# Altium footprint library CAN_optical_PcbLib.PcbLib: 20 footprints (part 2 of 2)
Each footprint in its own frame and in the unit in brackets; x right, y up, seen from the top. Pads: shape width x height; smd on the part's side, far side on the other; paste and mask are expansions set on the pad; w line width, h text height; cw(c..) or ccw(c..) is an arc to the next point about the centre after c.
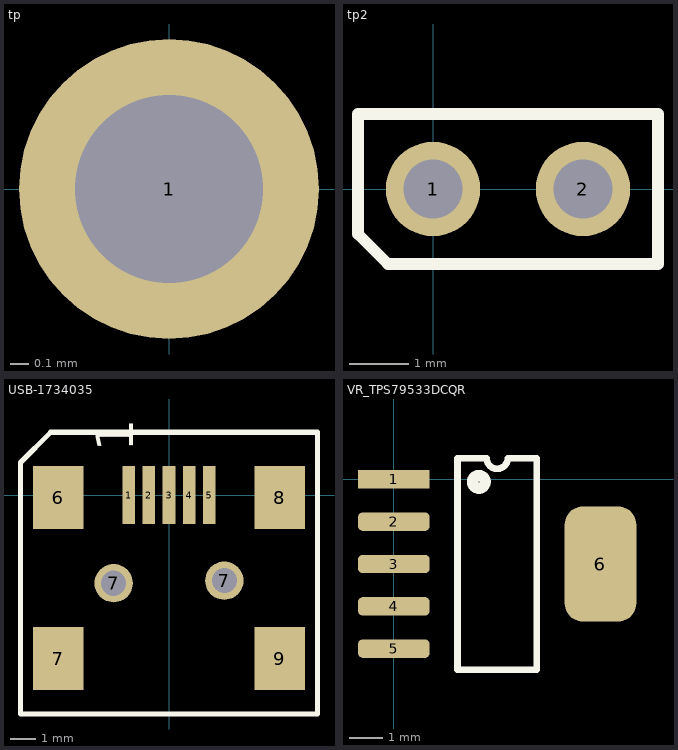
[diagram p1: the footprints below, top view; thin cyan lines are the x and y axes]

## tp [mm]
pads (1):
  round 1.6 hole 1: 1(0,0)

## tp2 [mm]
pads (2):
  round 1.6 hole 1: 1(0,0) 2(2.54,0)
Top Overlay:
  lines w0.2: -1.27,-0.762 -0.762,-1.27 3.81,-1.27 3.81,1.27 -1.27,1.27 -1.27,-0.762

## USB-1734035 [mm]
pads (11):
  rect 0.5x2.3 smd: 1(-1.6,0) 2(-0.8,0) 3(0,0) 4(0.8,0) 5(1.6,0)
  rect 2x2.5 smd: 6(-4.4,-0.1) 7(-4.4,-6.5) 8(4.4,-0.1) 9(4.4,-6.5)
  round 1.524 hole 1 unplated: 7(-2.2,-3.5) 7(2.2,-3.4)
Top Layer:
  text "1" at 1.7,23.4 h1.52
Top Overlay:
  lines w0.2: -5.9,-8.7 5.9,-8.7 5.9,2.5 -4.7,2.5 -5.9,1.3 -5.9,-1.3 -5.9,-5.1 -5.9,-8.7
  text "1" at -1.425,1.725 h1.5

## VR_TPS79533DCQR [mm]
pads (6):
  rect 2.15x0.55 smd: 1(0,0)
  rrect50% 2.15x0.55 smd: 2(0,-1.27) 3(0,-2.54) 4(0,-3.81) 5(0,-5.08)
  rrect50% 2.15x3.45 smd: 6(6.2,-2.54)
Top Overlay:
  circle w0.34: c2.55,-0.075 r0.19
  lines w0.2: 1.91,-5.715 4.29,-5.715 4.29,0.635 3.417,0.635 cw(c3.1,0.635) 2.782,0.635 1.91,0.635 1.91,-5.715